# Altium footprint library IC_ON_Semiconductor_LM2576D2T-005G_eec_MFG.PcbLib: 1 footprints
Each footprint in its own frame and in the unit in brackets; x right, y up, seen from the top. Pads: shape width x height; smd on the part's side, far side on the other; paste and mask are expansions set on the pad; w line width, h text height; cw(c..) or ccw(c..) is an arc to the next point about the centre after c.
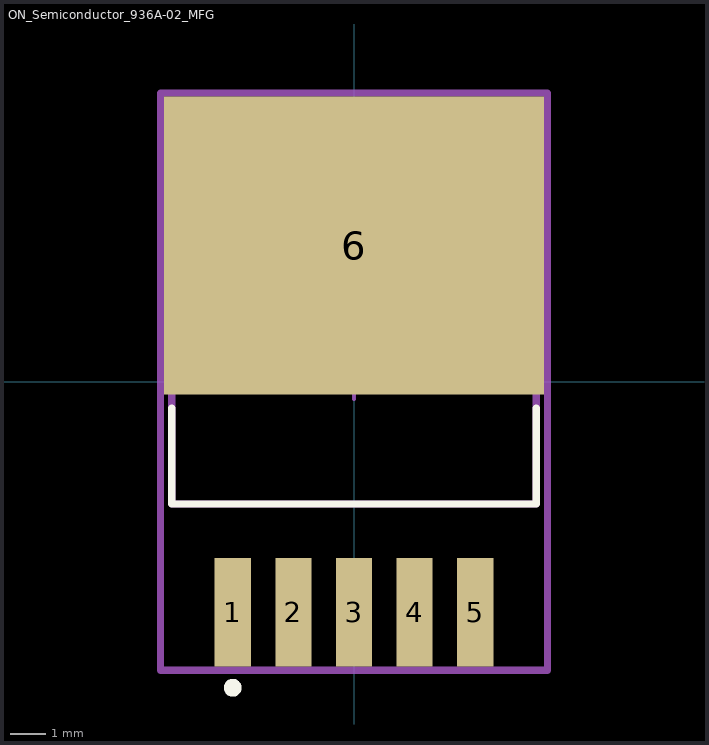
[diagram p0: the footprint, top view; thin cyan lines are the x and y axes]

## ON_Semiconductor_936A-02_MFG [mm]
pads (6):
  rect 1.016x3.05 smd paste+0 mask+0: 1(-3.404,-6.485) 2(-1.702,-6.485) 3(0,-6.485) 4(1.702,-6.485) 5(3.404,-6.485)
  rect 10.66x8.38 smd paste+0 mask+0: 6(0,3.82)
Top Overlay:
  circle w0.25: c-3.404,-8.6 r0.125
  lines w0.2: -5.118,-0.745 -5.118,-3.441 5.118,-3.441 5.118,-0.745
Mechanical 10:
  lines w0.2: -5.43,-8.11 -5.43,8.11 5.43,8.11 5.43,-8.11 -5.43,-8.11
  text ".Designator" at 0,0 h1
Mechanical 12:
  lines w0.2: -5.118,-3.441 -5.118,5.906 5.118,5.906 5.118,-3.441 -5.118,-3.441
Mechanical 15:
  lines w0.1: -0.5,0 0.5,0 ; 0,-0.5 0,0.5
  lines w0.2: -5.43,-8.11 -5.43,8.11 5.43,8.11 5.43,-8.11 -5.43,-8.11
3D body "IC_ON_Semiconductor_LM2576D2T-005G_eec.STEP": height 0.25, standoff 0, extent -5.43,-8.11 5.43,8.11